# Altium schematic symbol library E2S_E2S_033_LIBRARY.SchLib: 86 symbols (part 2 of 2)
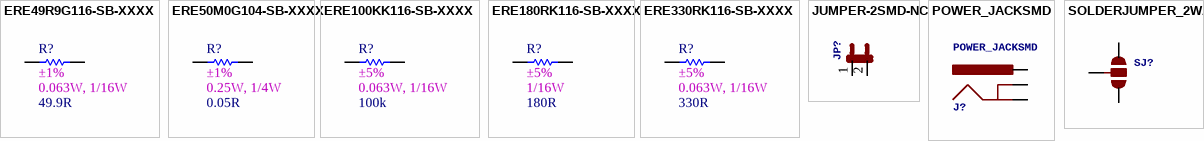
[diagram p3: symbols ERE49R9G116-SB-XXXX to SOLDERJUMPER_2WAYS]

## POWER_JACKSMD
designator J?
Power JackThis is the standard 5.5mm barrel jack for power. The PTH is the most common, proven, reliable, footprint. All others are experimental. The Slot footprint only works if the mill layer is transmitted to the PCB fab house so be warned. Spark Fun Electronics SKU : PRT-00119. Mating wall wart : TOL-00298 (and others); GateName_1: G$1; DeviceName: SMD; SymbolName_1: POWERJACK; LibraryName: SparkFun; DeviceSetName: POWER_JACK
footprint POWER_JACK_SMD
pins: GND GNDBREAK, P$4 GND, VIN0 PWR

## SOLDERJUMPER_2WAYS
designator SJ?  (value not drawn)
Solder Jumper2 way solder jumper; GateName_1: G$1; SymbolName_1: SJ_2; DeviceName: S; LibraryName: SparkFun; DeviceSetName: SOLDERJUMPER_2WAY
footprint SJ_3
pins: 1, 2, 3